# EAGLE library part LT6402 (library IC)
Linear Technology LT6402(-6, -12, -20) 300MHz Low Distortion, Low Noise Differential Amplifier/ADC Driver at 6, 12, 20dB
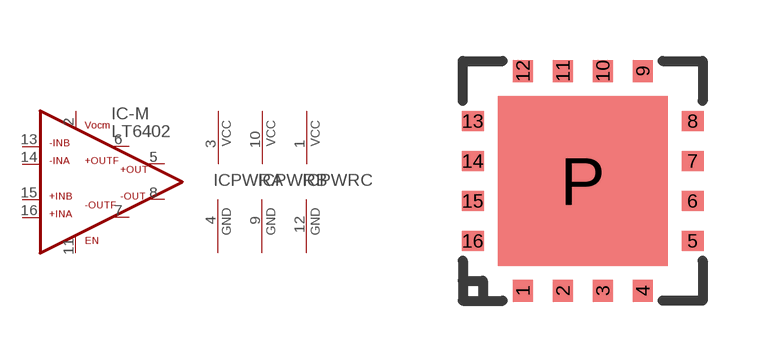
[diagram p131: symbol with the pads of QFN16_FS; footprint QFN16_FS]

Designator prefix IC; gates -M=LT6402 PWRA=PWR-VCC-GND PWRB=PWR-VCC-GND PWRC=PWR-VCC-GND

## LT6402  [QFN16_FS]
1  PWRC:VCC  pwr
2  -M:VOCM
3  PWRA:VCC  pwr
4  PWRA:GND  pwr
5  -M:+OUT  out
6  -M:+OUTF  out
7  -M:-OUTF  out
8  -M:-OUT  out
9  PWRB:GND  pwr
10  PWRB:VCC  pwr
11  -M:EN
12  PWRC:GND  pwr
13  -M:-INB  in
14  -M:-INA  in
15  -M:+INB  in
16  -M:+INA  in

## Footprint QFN16_FS (pad centres in mm)
16 pin QFN (Freescale)
smd 0.5 x 0.55: 1 -1.5,-2.75; 2 -0.5,-2.75; 3 0.5,-2.75; 4 1.5,-2.75; 9 1.5,2.75; 10 0.5,2.75; 11 -0.5,2.75; 12 -1.5,2.75
smd 0.55 x 0.5: 5 2.75,-1.5; 6 2.75,-0.5; 7 2.75,0.5; 8 2.75,1.5; 13 -2.75,1.5; 14 -2.75,0.5; 15 -2.75,-0.5; 16 -2.75,-1.5
smd 4.25 x 4.25: P 0,0